# Altium footprint library pedals-integrated circuits.PCBLIB: 25 footprints (part 1 of 2)
Each footprint in its own frame and in the unit in brackets; x right, y up, seen from the top. Pads: shape width x height; smd on the part's side, far side on the other; paste and mask are expansions set on the pad; w line width, h text height; cw(c..) or ccw(c..) is an arc to the next point about the centre after c.
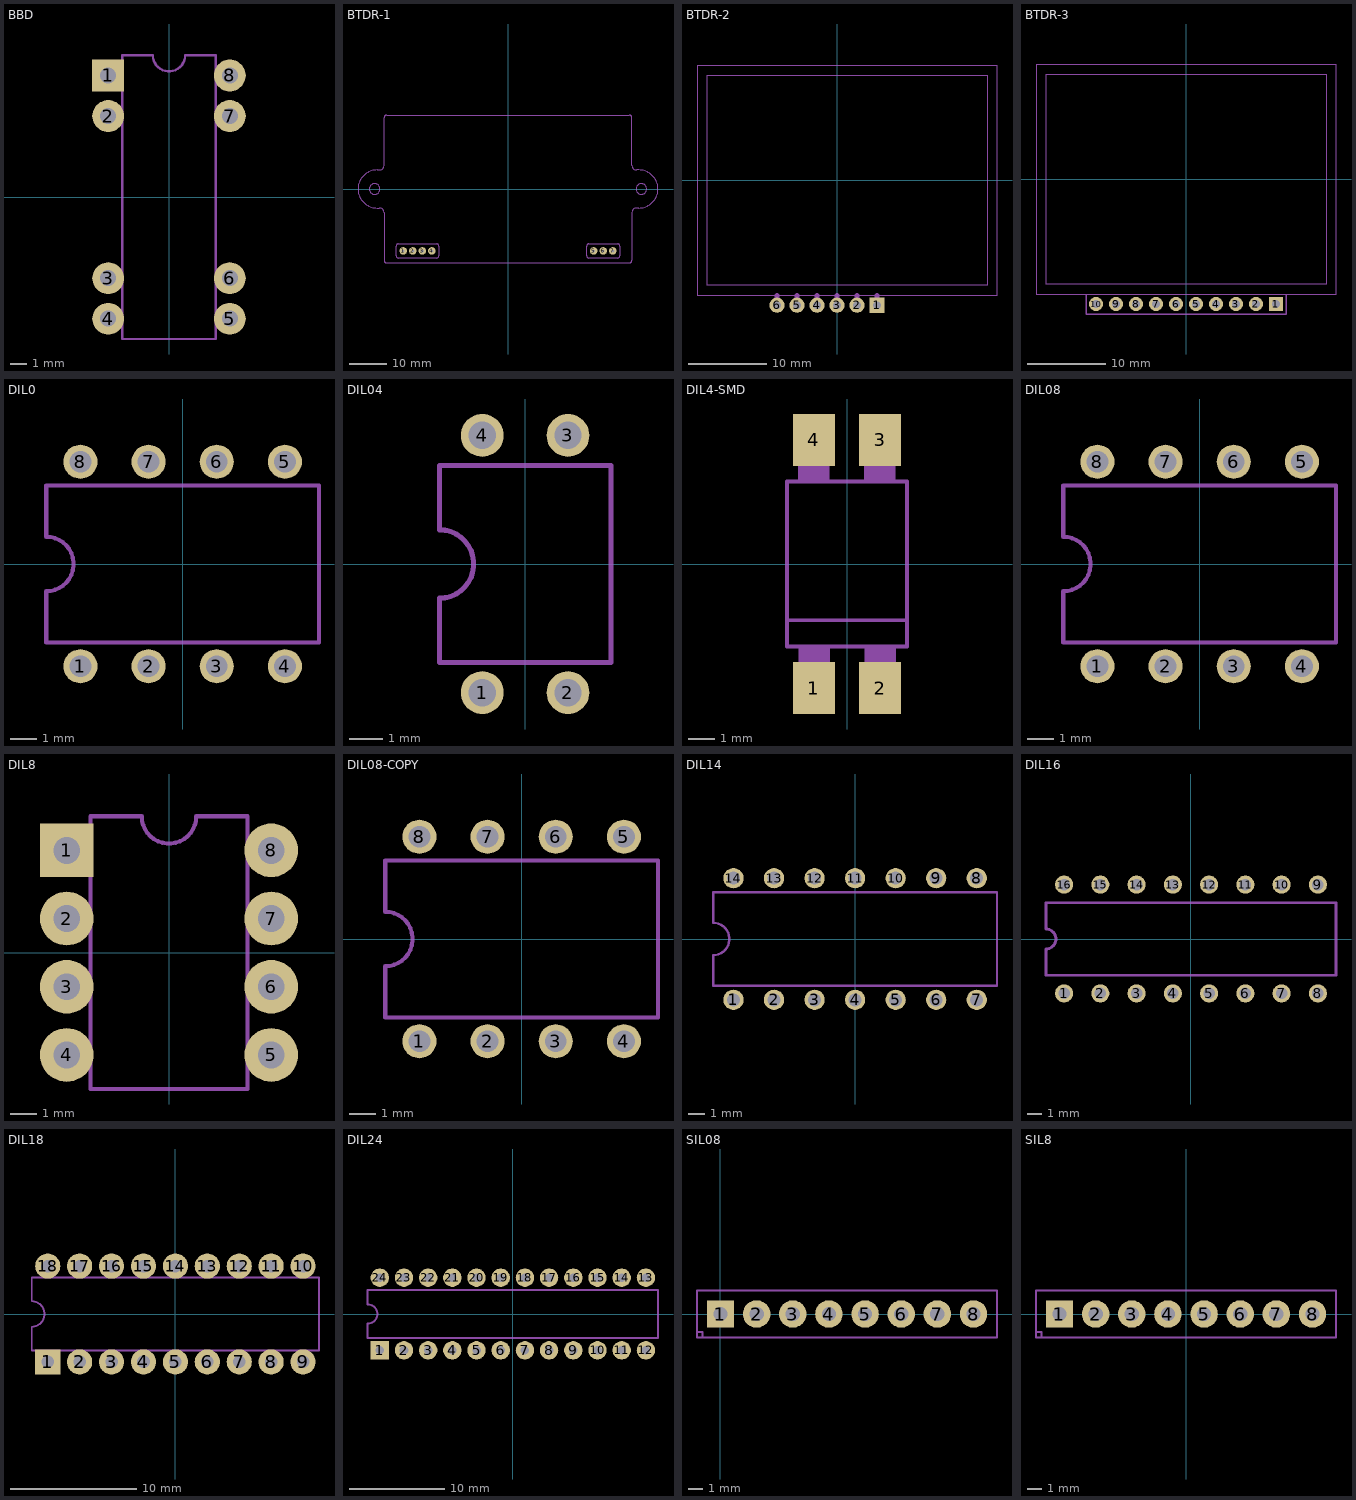
[diagram p0: the footprints below, top view; thin cyan lines are the x and y axes]

## BBD [mm]
pads (8):
  rect 2x2 hole 1: 1(-3.81,7.62)
  round 2 hole 1: 2(-3.81,5.08) 3(-3.81,-5.08) 4(-3.81,-7.62) 5(3.81,-7.62) 6(3.81,-5.08) 7(3.81,5.08) 8(3.81,7.62)
Mechanical 2:
  lines w0.152: -2.921,-8.89 2.921,-8.89 2.921,8.89 1.016,8.89 cw(c0,8.89) -1.016,8.89 -2.921,8.89 -2.921,-8.89

## BTDR-1 [mm]
pads (7):
  round 2 hole 0.8: 1(-27.94,-16.51) 2(-25.4,-16.51) 3(-22.86,-16.51) 4(-20.32,-16.51) 5(22.86,-16.51) 6(25.4,-16.51) 7(27.94,-16.51)
Mechanical 2:
  circle w0.127: c35.56,0 r1.42
  circle w0.127: c-35.56,0 r1.42
  lines w0.127: -40.005,0 ccw(c-34.925,0) -34.925,-5.08 -34.29,-5.08 cw(c-34.29,-6.35) -33.02,-6.35 -33.02,-19.05 ccw(c-32.385,-19.05) -32.385,-19.685 32.385,-19.685 ccw(c32.385,-19.05) 33.02,-19.05 33.02,-6.35 cw(c34.29,-6.35) 34.29,-5.08 34.925,-5.08 ccw(c34.925,0) 40.005,0 ccw(c34.925,0) 34.925,5.08 34.29,5.08 cw(c34.29,6.35) 33.02,6.35 33.02,19.05 ccw(c32.385,19.05) 32.385,19.685 -32.385,19.685 ccw(c-32.385,19.05) -33.02,19.05 -33.02,6.35 cw(c-34.29,6.35) -34.29,5.08 -34.925,5.08 ccw(c-34.925,0) -40.005,0
Mechanical 3:
  lines w0.127: -29.845,-17.78 ccw(c-29.21,-17.78) -29.21,-18.415 -19.05,-18.415 ccw(c-19.05,-17.78) -18.415,-17.78 -18.415,-15.24 ccw(c-19.05,-15.24) -19.05,-14.605 -29.21,-14.605 ccw(c-29.21,-15.24) -29.845,-15.24 -29.845,-17.78 ; 20.955,-17.78 ccw(c21.59,-17.78) 21.59,-18.415 29.21,-18.415 ccw(c29.21,-17.78) 29.845,-17.78 29.845,-15.24 ccw(c29.21,-15.24) 29.21,-14.605 21.59,-14.605 ccw(c21.59,-15.24) 20.955,-15.24 20.955,-17.78

## BTDR-2 [mil]
pads (6):
  rect 76x76 hole 39.37: 1(200,-625)
  round 76 hole 39.37: 2(100,-625) 3(0,-625) 4(-100,-625) 5(-200,-625) 6(-300,-625)
Mechanical 2:
  lines w5: -700,-575 -700,575 800,575 800,-575 -700,-575 ; -650,-525 750,-525 750,525 -650,525 -650,-525
Mechanical 18:
  lines w24: -300,-625 -300,-575 ; -200,-625 -200,-575 ; -100,-625 -100,-575 ; 0,-625 0,-575 ; 100,-625 100,-575 ; 200,-625 200,-575

## BTDR-3 [mil]
pads (10):
  rect 70x70 hole 39.37: 1(450,-625)
  round 70 hole 39.37: 2(350,-625) 3(250,-625) 4(150,-625) 5(50,-625) 6(-50,-625) 7(-150,-625) 8(-250,-625) 9(-350,-625) 10(-450,-625)
Mechanical 2:
  lines w5: -500,-575 -750,-575 -750,575 750,575 750,-575 500,-575 ; -500,-575 500,-575 ; -500,-575 -500,-675 500,-675 500,-575 ; -700,-525 700,-525 700,525 -700,525 -700,-525
Mechanical 3:
  lines w5: -500,-675 500,-675 500,-575 -500,-575 -500,-675

## DIL0 [mil]
pads (8):
  round 50 hole 32: 1(-150,-150) 2(-50,-150) 3(50,-150) 4(150,-150) 5(150,150) 6(50,150) 7(-50,150) 8(-150,150)
Mechanical 2:
  lines w6: -200,-115 -200,-40 ccw(c-200,0) -200,40 -200,115 200,115 200,-115 -200,-115
3D body "SW3DPS-DIP8-DEFAULT.STEP": height 335, standoff 65, extent -225,-155 225,155
3D body "DIL8_SOCKET.STEP": height 180.39, standoff -115.28, extent -200,-200 200,200

## DIL04 [mil]
pads (4):
  round 50 hole 32: 1(-50,-150) 2(50,-150) 3(50,150) 4(-50,150)
Mechanical 2:
  lines w6: -100,-115 100,-115 100,115 -100,115 -100,40 cw(c-100,0) -100,-40 -100,-115

## DIL4-SMD [mm]
pads (4):
  rect 1.6x2 smd: 1(-1.27,-4.77) 2(1.27,-4.77) 3(1.27,4.77) 4(-1.27,4.77)
Mechanical 2:
  lines w0.152: -2.315,-2.164 2.315,-2.164 ; 2.315,-2.164 2.315,3.18 -2.315,3.18 -2.315,-3.18 2.315,-3.18 2.315,-2.164
Mechanical 18:
  rectangle: -1.875,-5.15 -0.65,-3.2
  rectangle: 0.665,-5.15 1.89,-3.2
  region: 1.875,5.15 0.65,5.15 0.65,3.2 1.875,3.2
  region: -0.665,5.15 -1.89,5.15 -1.89,3.2 -0.665,3.2

## DIL08 [mil]
pads (8):
  round 50 hole 32: 1(-150,-150) 2(-50,-150) 3(50,-150) 4(150,-150) 5(150,150) 6(50,150) 7(-50,150) 8(-150,150)
Mechanical 2:
  lines w6: -200,-115 -200,-40 ccw(c-200,0) -200,40 -200,115 200,115 200,-115 -200,-115

## DIL8 [mm]
pads (8):
  rect 2x2 hole 1: 1(-3.81,3.81)
  round 2 hole 1: 2(-3.81,1.27) 3(-3.81,-1.27) 4(-3.81,-3.81) 5(3.81,-3.81) 6(3.81,-1.27) 7(3.81,1.27) 8(3.81,3.81)
Mechanical 2:
  lines w0.152: -2.921,-5.08 2.921,-5.08 2.921,5.08 1.016,5.08 cw(c0,5.08) -1.016,5.08 -2.921,5.08 -2.921,-5.08

## DIL08-COPY [mil]
pads (8):
  round 50 hole 32: 1(-150,-150) 2(-50,-150) 3(50,-150) 4(150,-150) 5(150,150) 6(50,150) 7(-50,150) 8(-150,150)
Mechanical 2:
  lines w6: -200,-115 -200,-40 ccw(c-200,0) -200,40 -200,115 200,115 200,-115 -200,-115

## DIL14 [mil]
pads (14):
  round 50 hole 32: 1(-300,-150) 2(-200,-150) 3(-100,-150) 4(0,-150) 5(100,-150) 6(200,-150) 7(300,-150) 8(300,150) 9(200,150) 10(100,150) 11(0,150) 12(-100,150) 13(-200,150) 14(-300,150)
Mechanical 2:
  lines w6: -350,-115 350,-115 350,115 -350,115 -350,40 cw(c-350,0) -350,-40 -350,-115

## DIL16 [mil]
pads (16):
  round 50 hole 32: 1(-350,-150) 2(-250,-150) 3(-150,-150) 4(-50,-150) 5(50,-150) 6(150,-150) 7(250,-150) 8(350,-150) 9(350,150) 10(250,150) 11(150,150) 12(50,150) 13(-50,150) 14(-150,150) 15(-250,150) 16(-350,150)
Mechanical 2:
  lines w8: -400,-100 400,-100 400,100 -400,100 -400,27.5 cw(c-400,0) -400,-27.5 -400,-100

## DIL18 [mm]
pads (18):
  rect 2x2 hole 1: 1(-10.16,-3.81)
  round 2 hole 1: 2(-7.62,-3.81) 3(-5.08,-3.81) 4(-2.54,-3.81) 5(0,-3.81) 6(2.54,-3.81) 7(5.08,-3.81) 8(7.62,-3.81) 9(10.16,-3.81) 10(10.16,3.81) 11(7.62,3.81) 12(5.08,3.81) 13(2.54,3.81) 14(0,3.81) 15(-2.54,3.81) 16(-5.08,3.81) 17(-7.62,3.81) 18(-10.16,3.81)
Mechanical 2:
  lines w0.152: -11.43,-2.921 11.43,-2.921 11.43,2.921 -11.43,2.921 -11.43,1.016 cw(c-11.43,0) -11.43,-1.016 -11.43,-2.921

## DIL24 [mil]
pads (24):
  rect 76x76 hole 35.43: 1(-550,-150)
  round 76 hole 35.43: 2(-450,-150) 3(-350,-150) 4(-250,-150) 5(-150,-150) 6(-50,-150) 7(50,-150) 8(150,-150) 9(250,-150) 10(350,-150) 11(450,-150) 12(550,-150) 13(550,150) 14(450,150) 15(350,150) 16(250,150) 17(150,150) 18(50,150) 19(-50,150) 20(-150,150) 21(-250,150) 22(-350,150) 23(-450,150) 24(-550,150)
Mechanical 2:
  lines w8: -600,-100 -600,-40 ccw(c-600,0) -600,40 -600,100 600,100 600,-100 -600,-100

## SIL08 [mil]
pads (8):
  rect 76x76 hole 39.37: 1(0,0)
  round 76 hole 39.37: 2(100,0) 3(200,0) 4(300,0) 5(400,0) 6(500,0) 7(600,0) 8(700,0)
Mechanical 2:
  lines w5: -65,-50 -65,-65 -50,-65 ; -65,-50 -65,65 765,65 765,-65 -50,-65 ; -65,-50 -50,-50 -50,-65

## SIL8 [mil]
pads (8):
  rect 76x76 hole 39.37: 1(-350,0)
  round 76 hole 39.37: 2(-250,0) 3(-150,0) 4(-50,0) 5(50,0) 6(150,0) 7(250,0) 8(350,0)
Mechanical 2:
  lines w5: -415,-50 -415,-65 -400,-65 ; -415,-50 -415,65 415,65 415,-65 -400,-65 ; -415,-50 -400,-50 -400,-65